# EAGLE library part K157DA1 (library ESR_NM8032)
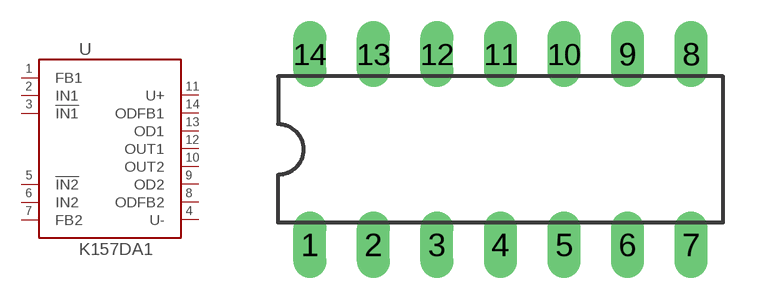
[diagram p1: symbol with the pads of DIL14; footprint DIL14]

Designator prefix -

## K157DA1  [DIL14]
1  FB1  pas
2  IN1  pas
3  !IN1  pas
4  U-  pas
5  !IN2  pas
6  IN2  pas
7  FB2  pas
8  ODFB2  pas
9  OD2  pas
10  OUT2  pas
11  U+  pas
12  OUT1  pas
13  OD1  pas
14  ODFB1  pas

## Footprint DIL14 (pad centres in mm)
Dual In Line Package
drill 0.813 long: 1 -7.62,-3.81; 2 -5.08,-3.81; 3 -2.54,-3.81; 4 0,-3.81; 5 2.54,-3.81; 6 5.08,-3.81; 7 7.62,-3.81; 8 7.62,3.81; 9 5.08,3.81; 10 2.54,3.81; 11 0,3.81; 12 -2.54,3.81; 13 -5.08,3.81; 14 -7.62,3.81